# Altium footprint library TPS566231RQF.PcbLib: 1 footprints
Each footprint in its own frame and in the unit in brackets; x right, y up, seen from the top. Pads: shape width x height; smd on the part's side, far side on the other; paste and mask are expansions set on the pad; w line width, h text height; cw(c..) or ccw(c..) is an arc to the next point about the centre after c.
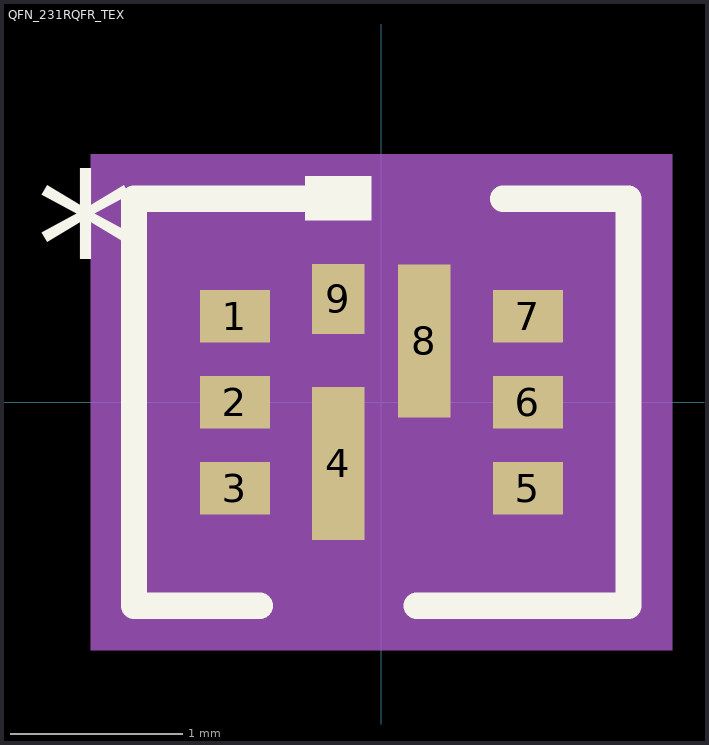
[diagram p0: the footprint, top view; thin cyan lines are the x and y axes]

## QFN_231RQFR_TEX [mil]
pads (9):
  rect 16x12 smd paste-6 mask+0: 1(-33.46,19.68) 2(-33.46,0) 3(-33.46,-19.68) 5(33.46,-19.68) 6(33.46,0) 7(33.46,19.68)
  rect 12x35 smd paste+0 mask+0: 4(-9.84,-14) 8(9.84,14)
  rect 12x16 smd paste-6 mask+0: 9(-9.84,23.62)
Top Overlay:
  region: -2.34,41.62 -17.34,41.62 -17.34,51.62 -2.34,51.62
  lines w6: -27.79,-46.5 -56.5,-46.5 -56.5,46.5 -8.1,46.5 ; 8.1,-46.5 56.5,-46.5 56.5,46.5 27.79,46.5
  text "*" at -78.96,19.53 h50
Mechanical 5:
  region: 66.46,-56.62 -66.46,-56.62 -66.46,56.62 66.46,56.62
Mechanical 13:
  lines w1: -41.5,-18.5 8.5,31.5 ; -41.5,-31.5 41.5,-31.5 41.5,31.5 -41.5,31.5 -41.5,-31.5
  text "*" at -27.96,4.53 h50
Mechanical 15:
  region: -25.84,-41.5 -51.5,-41.5 -51.5,-35.69 -51.5,35.69 -51.5,41.5 -25.84,41.5 -25.84,41.62 25.84,41.62 25.84,41.5 51.5,41.5 51.5,35.69 51.5,-35.69 51.5,-41.5 25.84,-41.5 25.84,-41.62 -25.84,-41.62
  lines w6: -51.5,-41.5 -51.5,-35.69 -51.5,35.69 -51.5,41.5 -25.84,41.5 -25.84,41.62 25.84,41.62 25.84,41.5 51.5,41.5 51.5,35.69 51.5,-35.69 51.5,-41.5 25.84,-41.5 25.84,-41.62 -25.84,-41.62 -25.84,-41.5 -51.5,-41.5
3D body: height 10, standoff 0, extent -50,-40 50,40